# Altium footprint library THERMOCOUPLE.PcbLib: 1 footprints
Each footprint in its own frame and in the unit in brackets; x right, y up, seen from the top. Pads: shape width x height; smd on the part's side, far side on the other; paste and mask are expansions set on the pad; w line width, h text height; cw(c..) or ccw(c..) is an arc to the next point about the centre after c.
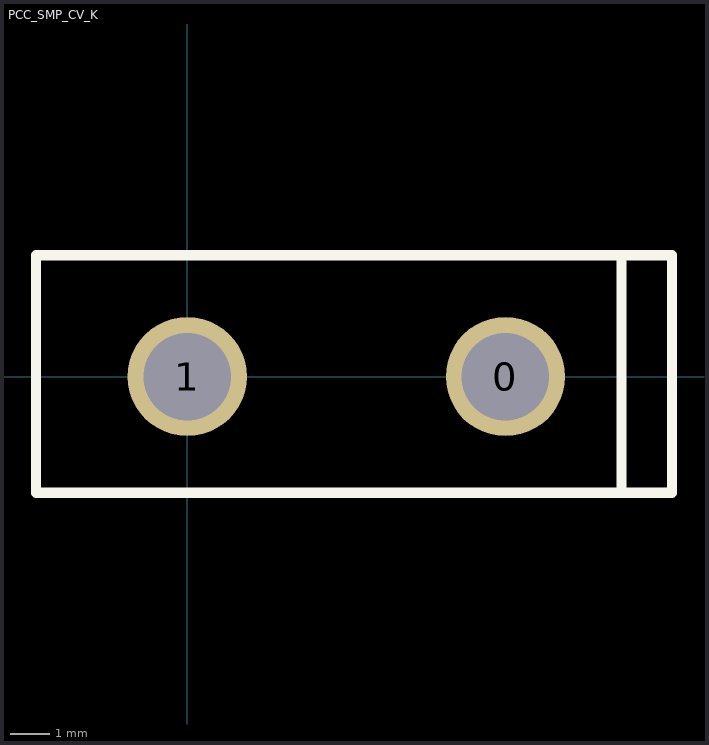
[diagram p0: the footprint, top view; thin cyan lines are the x and y axes]

## PCC_SMP_CV_K [mm]
pads (2):
  round 3 hole 2.2: 0(8.001,0) 1(0,0)
Top Overlay:
  lines w0.254: 10.922,-2.921 10.922,2.984 ; -3.808,-2.921 12.192,-2.921 12.192,3.048 -3.808,3.048 -3.808,-2.921